# EAGLE library part MX25U_IF_6PIN (library PartsForProto)
MX25U6435F評価用インターフェース
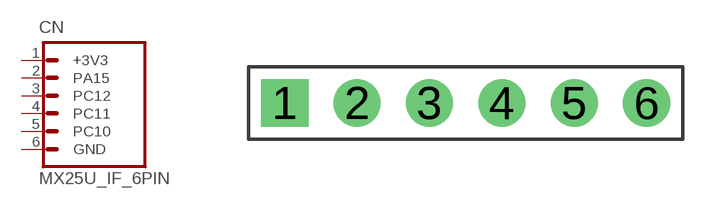
[diagram p28: symbol with the pads of HEADER_6PIN; footprint HEADER_6PIN]

Designator prefix CN

## MX25U_IF_6PIN  [HEADER_6PIN]
1  +3V3  pas
2  PA15
3  PC12
4  PC11
5  PC10
6  GND  pas

## Footprint HEADER_6PIN (pad centres in mm)
汎用６ピンレイアウト
drill 0.889 pad 1.651 square: 1 0,0
drill 0.889 pad 1.651: 2 2.54,0; 3 5.08,0; 4 7.62,0; 5 10.16,0; 6 12.7,0